# Altium schematic symbol library GRM21BR61C106KE15L.SchLib: 2 symbols
Pins are listed as number, name and electrical type; pins without a type are passive.

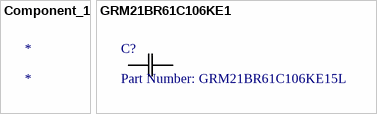
[diagram p0: symbols Component_1 to GRM21BR61C106KE1]

## Component_1
designator *

## GRM21BR61C106KE1
designator C?, comment Part Number: GRM21BR61C106KE15L
No Description Available; Vendor: Murata; Type: DEV; Copyright: Copyright (C) 2015 Accelerated Designs. All rights reserved; Manufacturer_Part_Number: GRM21BR61C106KE15L; RefDes: RefDes; Value: Value
footprint G-21
pins: 1, 2